# EAGLE library part ADAFRUIT_FONA (library InfoAmazonia)
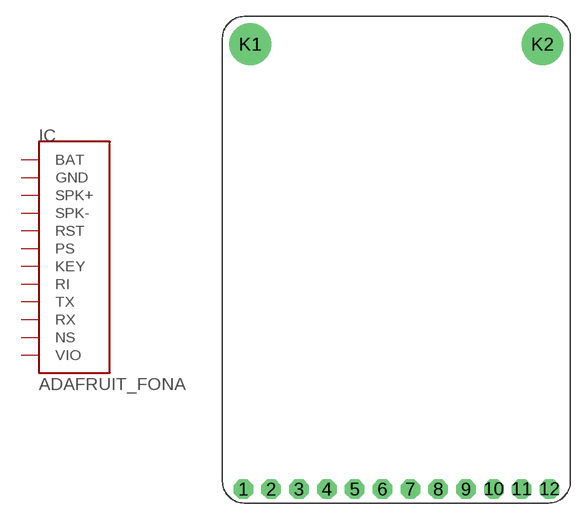
[diagram p12: symbol with the pads of ADAFRUIT_FONA; footprint ADAFRUIT_FONA]

Designator prefix IC

## ADAFRUIT_FONA  [ADAFRUIT_FONA]
1  BAT
2  GND
3  SPK+
4  SPK-
5  RST
6  PS
7  KEY
8  RI
9  TX
10  RX
11  NS
12  VIO
K1  GND
K2  GND

## Footprint ADAFRUIT_FONA (pad centres in mm)
drill 1.1 pad 1.778 octagon: 1 -13.97,1.27; 2 -11.43,1.27; 3 -8.89,1.27; 4 -6.35,1.27; 5 -3.81,1.27; 6 -1.27,1.27; 7 1.27,1.27; 8 3.81,1.27; 9 6.35,1.27; 10 8.89,1.27; 11 11.43,1.27; 12 13.97,1.27
drill 2.54 pad 3.81: K1 -13.335,41.91; K2 13.335,41.91